# EAGLE library part FRANZININHO (library Lib)
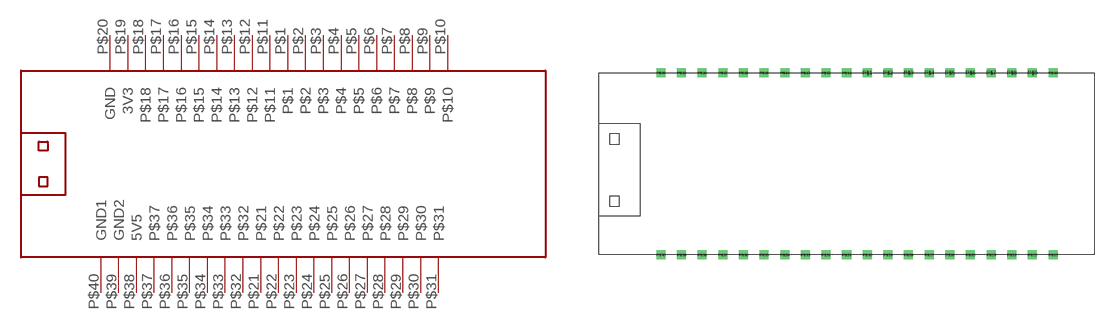
[diagram p0: symbol with the pads of FRANZININHO; footprint FRANZININHO]

Designator prefix FRANZ

## FRANZININHO  [FRANZININHO]
P$1  P$1
P$2  P$2
P$3  P$3
P$4  P$4
P$5  P$5
P$6  P$6
P$7  P$7
P$8  P$8
P$9  P$9
P$10  P$10
P$11  P$11
P$12  P$12
P$13  P$13
P$14  P$14
P$15  P$15
P$16  P$16
P$17  P$17
P$18  P$18
P$19  3V3
P$20  GND
P$21  P$21
P$22  P$22
P$23  P$23
P$24  P$24
P$25  P$25
P$26  P$26
P$27  P$27
P$28  P$28
P$29  P$29
P$30  P$30
P$31  P$31
P$32  P$32
P$33  P$33
P$34  P$34
P$35  P$35
P$36  P$36
P$37  P$37
P$38  5V5
P$39  GND2
P$40  GND1

## Footprint FRANZININHO (pad centres in mm)
drill 0.6 square: P$1 36.83,1.168; P$2 39.37,1.168; P$3 41.91,1.168; P$4 44.45,1.168; P$5 46.99,1.168; P$6 49.53,1.168; P$7 52.07,1.168; P$8 54.61,1.168; P$9 57.15,1.168; P$10 59.69,1.168; P$11 34.29,1.168; P$12 31.75,1.168; P$13 29.21,1.168; P$14 26.67,1.168; P$15 24.13,1.168; P$16 21.59,1.168; P$17 19.05,1.168; P$18 16.51,1.168; P$19 13.97,1.168; P$20 11.43,1.168; P$21 59.69,-21.234; P$22 57.15,-21.234; P$23 54.61,-21.234; P$24 52.07,-21.234; P$25 49.53,-21.234; P$26 46.99,-21.234; P$27 44.45,-21.234; P$28 41.91,-21.234; P$29 39.37,-21.234; P$30 36.83,-21.234; P$31 34.29,-21.234; P$32 31.75,-21.234; P$33 29.21,-21.234; P$34 26.67,-21.234; P$35 24.13,-21.234; P$36 21.59,-21.234; P$37 19.05,-21.234; P$38 16.51,-21.234; P$39 13.97,-21.234; P$40 11.43,-21.234